# EAGLE library part THONK_LOW-PROFILE_ILLUMINATED_BUTTON (library THONK_Illuminated_PushButton)
Low-profile illuminated pushbutton switch, available with a choice of LED colours, as used in the m0xpd Dual 4:1 Multiplexer https://www.thonk.co.uk/shop/low-profile-led-buttons/
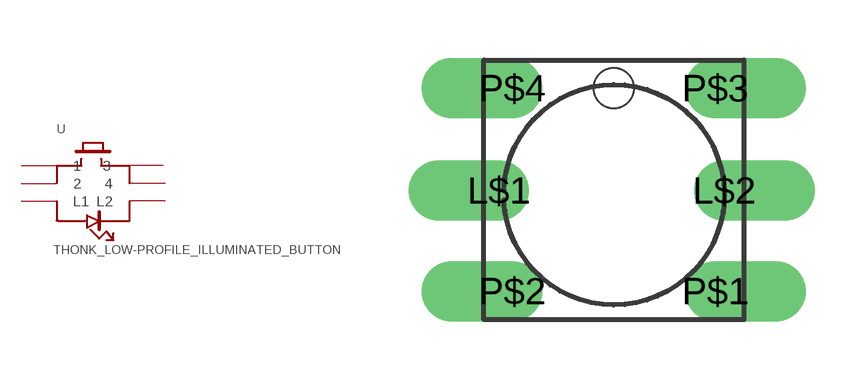
[diagram p0: symbol with the pads of LOW_PROFILE_BUTTON; footprint LOW_PROFILE_BUTTON]

Designator prefix -

## THONK_LOW-PROFILE_ILLUMINATED_BUTTON  [LOW_PROFILE_BUTTON]
L$1  L1
L$2  L2
P$1  1
P$2  2
P$3  3
P$4  4

## Footprint LOW_PROFILE_BUTTON (pad centres in mm)
drill 1 offset: L$1 -2.875,-0.02; L$2 2.76,-0.02; P$1 2.54,-2.54; P$2 -2.54,-2.54; P$3 2.54,2.54; P$4 -2.54,2.54
hole 1 at 0,2.54